# Altium footprint library Capasitors_Ceramic.PcbLib: 2 footprints
Each footprint in its own frame and in the unit in brackets; x right, y up, seen from the top. Pads: shape width x height; smd on the part's side, far side on the other; paste and mask are expansions set on the pad; w line width, h text height; cw(c..) or ccw(c..) is an arc to the next point about the centre after c.
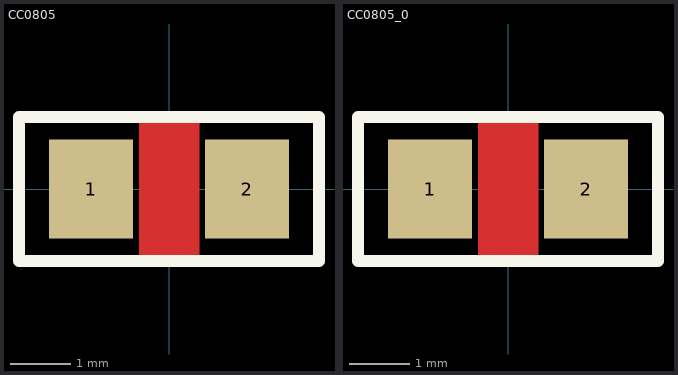
[diagram p0: the footprints below, top view; thin cyan lines are the x and y axes]

## CC0805 [mm]
pads (2):
  rect 1.4x1.65 smd: 1(-1.3,0) 2(1.3,0)
Top Layer:
  pour cut-out: -0.5,1.1 0.5,1.1 0.5,-1.1 -0.5,-1.1
Top Overlay:
  lines w0.2: -2.5,-1.2 2.5,-1.2 2.5,1.2 -2.5,1.2 -2.5,0.475 -2.5,-1.2
3D body "Ceramic_Capacitor_0805_h32mil.step": height 0.81, standoff 0.01, extent -1,-0.625 1,0.625

## CC0805_0 [mm]
pads (2):
  rect 1.4x1.65 smd: 1(-1.3,0) 2(1.3,0)
Top Layer:
  pour cut-out: -0.5,1.1 0.5,1.1 0.5,-1.1 -0.5,-1.1
Top Overlay:
  lines w0.2: -2.5,-1.2 2.5,-1.2 2.5,1.2 -2.5,1.2 -2.5,0.475 -2.5,-1.2